# Altium footprint library AMPHENOL_10129383-910002ALF.PcbLib: 1 footprints
Each footprint in its own frame and in the unit in brackets; x right, y up, seen from the top. Pads: shape width x height; smd on the part's side, far side on the other; paste and mask are expansions set on the pad; w line width, h text height; cw(c..) or ccw(c..) is an arc to the next point about the centre after c.
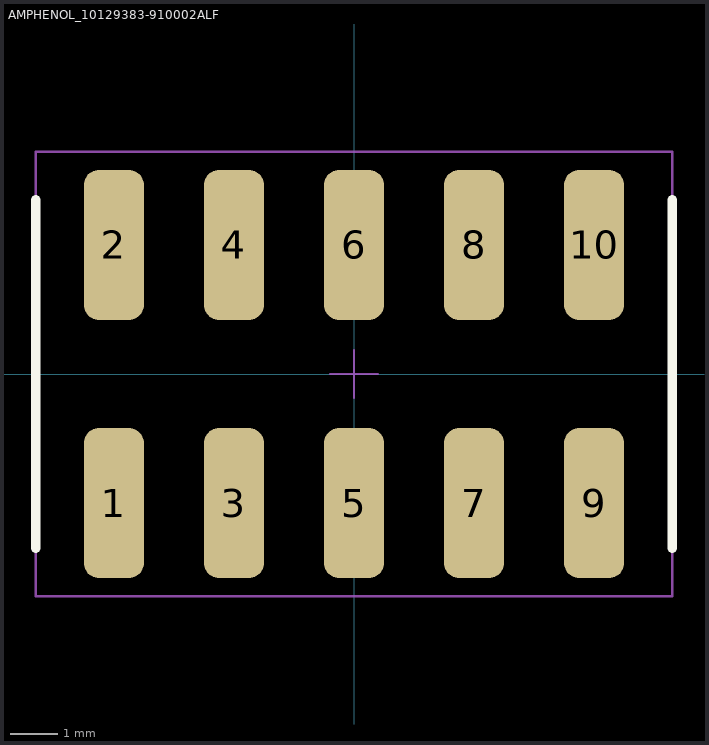
[diagram p0: the footprint, top view; thin cyan lines are the x and y axes]

## AMPHENOL_10129383-910002ALF [mil]
pads (10):
  rrect50% 50x125 smd: 1(-200,-107.5) 2(-200,107.5) 3(-100,-107.5) 4(-100,107.5) 5(0,-107.5) 6(0,107.5) 7(100,-107.5) 8(100,107.5) 9(200,-107.5) 10(200,107.5)
Top Overlay:
  lines w7.87: -265,-145 -265,145 ; 265,-145 265,145
Mechanical 15:
  lines w1.97: -20,0 20,0 ; 0,-20 0,20 ; -265,-185 265,-185 265,185 -265,185 -265,-185
3D body "s10129383-X10002XLF.stp": height 468.98, standoff 0.87, extent -250,-145.08 250,145.08